# EAGLE library part M74HC367B1R (library ST Microelctronics_By_element14_Batch_1)
HEX BUS BUFFER WITH 3 STATE OUTPUT NON INVERTING
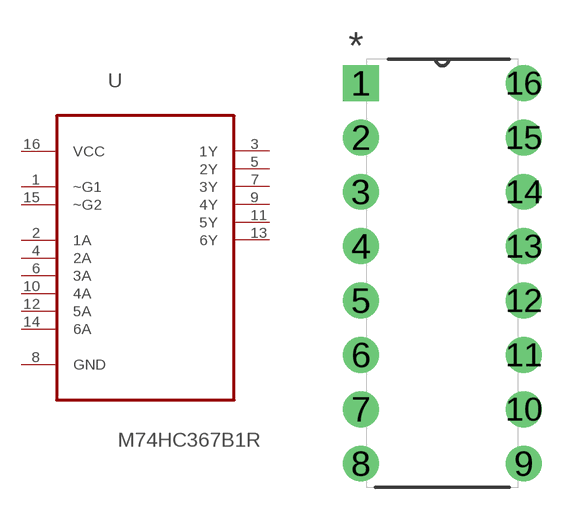
[diagram p229: symbol with the pads of DIP254P762X510-16; footprint DIP254P762X510-16]

Designator prefix U

## M74HC367B1R (MPN: M74HC367B1R; OC_FARNELL: 9755497; OC_NEWARK: 89K0892; PACKAGE: PDIP-16; SUPPLIER: STMICROELECTRONICS)  [DIP254P762X510-16]
1  ~G1  in
2  1A  in
3  1Y  out
4  2A  in
5  2Y  out
6  3A  in
7  3Y  out
8  GND  pas
9  4Y  out
10  4A  in
11  5Y  out
12  5A  in
13  6Y  out
14  6A  in
15  ~G2  in
16  VCC  pwr

## Footprint DIP254P762X510-16 (pad centres in mm)
drill 1.118 square: 1 -7.62,17.78
drill 1.118: 2 -7.62,15.24; 3 -7.62,12.7; 4 -7.62,10.16; 5 -7.62,7.62; 6 -7.62,5.08; 7 -7.62,2.54; 8 -7.62,0; 9 0,0; 10 0,2.54; 11 0,5.08; 12 0,7.62; 13 0,10.16; 14 0,12.7; 15 0,15.24; 16 0,17.78